# Altium schematic symbol library USB.SchLib: 1 symbol
Pins are listed as number, name and electrical type; pins without a type are passive.

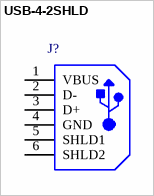
[diagram p0: symbol USB-4-2SHLD]

## USB-4-2SHLD
designator J?
footprint SMTC-USBR-TH-4_V (THD, 4-Leads, Body 16.3x12.04mm, Pitch 2.5mm)
pins: 1 VBUS, 2 D-, 3 D+, 4 GND, 5 SHLD1, 6 SHLD2